# Altium schematic symbol library AZ1084CD-3.3TRG1.SchLib: 1 symbol
Pins are listed as number, name and electrical type; pins without a type are passive.

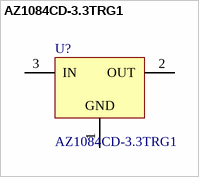
[diagram p0: symbol AZ1084CD-3.3TRG1]

## AZ1084CD-3.3TRG1
designator U?
5A Low Dropout Positive Regulators, 3-pin   TO-252-2(DPAK); Manufacturer: Diodes Incorporated; CompType: LDO IC; PartNumber: AZ1084CD-3.3TRG1; PinCount: 3; ComponentLink1URL: http://www.ti.com/general/docs/lit/getliterature.tsp?genericPartNumber=LM1085&fileType=pdf; ComponentLink1Description: Datasheet URL; LCSC Part #: C151391
footprint DPAK457P1010X238-3N
pins: 1 GND (power), 2 OUT (power), 3 IN (power)